# EAGLE library part MOLEX-502598-2593 (library gwu_mpnl_ucat_v10)
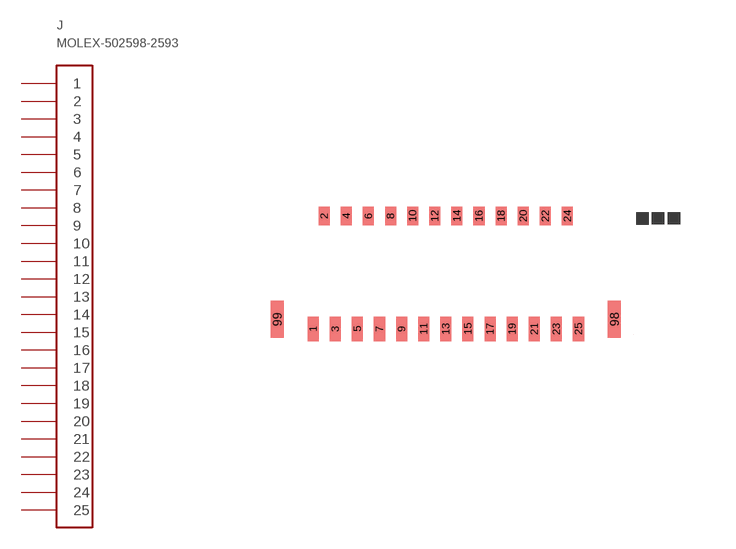
[diagram p18: symbol with the pads of MOLEX-502598-2593; footprint MOLEX-502598-2593]

Designator prefix J

## MOLEX-502598-2593  [MOLEX-502598-2593]
1  1
2  2
3  3
4  4
5  5
6  6
7  7
8  8
9  9
10  10
11  11
12  12
13  13
14  14
15  15
16  16
17  17
18  18
19  19
20  20
21  21
22  22
23  23
24  24
25  25

## Footprint MOLEX-502598-2593 (pad centres in mm)
0.3 FPC CONN. BACK FLIP HOUSING ASSY. 25 POS. 50V/0.2A/ckt, -40C/85C, Use w/15015 Premo-Flex Etched Polyimide Jumper
smd 0.3 x 0.67: 1 -3.6,0.335; 3 -3,0.335; 5 -2.4,0.335; 7 -1.8,0.335; 9 -1.2,0.335; 11 -0.6,0.335; 13 0,0.335; 15 0.6,0.335; 17 1.2,0.335; 19 1.8,0.335; 21 2.4,0.335; 23 3,0.335; 25 3.6,0.335
smd 0.3 x 0.5: 2 -3.3,3.4; 4 -2.7,3.4; 6 -2.1,3.4; 8 -1.5,3.4; 10 -0.9,3.4; 12 -0.3,3.4; 14 0.3,3.4; 16 0.9,3.4; 18 1.5,3.4; 20 2.1,3.4; 22 2.7,3.4; 24 3.3,3.4
smd 0.35 x 1: 98 4.575,0.6; 99 -4.575,0.6